# EAGLE library part CC3000_ADAFRUIT_BREAKOUT (library digikey)
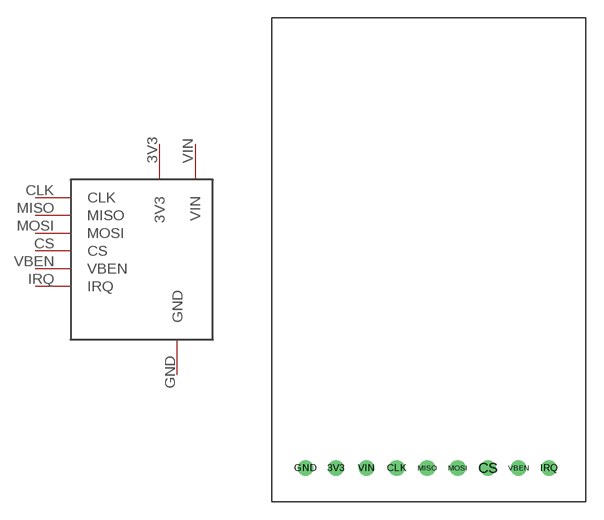
[diagram p8: symbol with the pads of CC3000_ADAFRUIT_BREAKOUT; footprint CC3000_ADAFRUIT_BREAKOUT]

Designator prefix -

## CC3000_ADAFRUIT_BREAKOUT  [CC3000_ADAFRUIT_BREAKOUT]
3V3  3V3
CLK  CLK
CS  CS
GND  GND
IRQ  IRQ
MISO  MISO
MOSI  MOSI
VBEN  VBEN
VIN  VIN

## Footprint CC3000_ADAFRUIT_BREAKOUT (pad centres in mm)
drill 0.8: 3V3 5.334,2.794; CLK 10.414,2.794; CS 18.034,2.794; GND 2.794,2.794; IRQ 23.114,2.794; MISO 12.954,2.794; MOSI 15.494,2.794; VBEN 20.574,2.794; VIN 7.874,2.794